# Altium footprint library RES1W.PcbLib: 1 footprints
Each footprint in its own frame and in the unit in brackets; x right, y up, seen from the top. Pads: shape width x height; smd on the part's side, far side on the other; paste and mask are expansions set on the pad; w line width, h text height; cw(c..) or ccw(c..) is an arc to the next point about the centre after c.
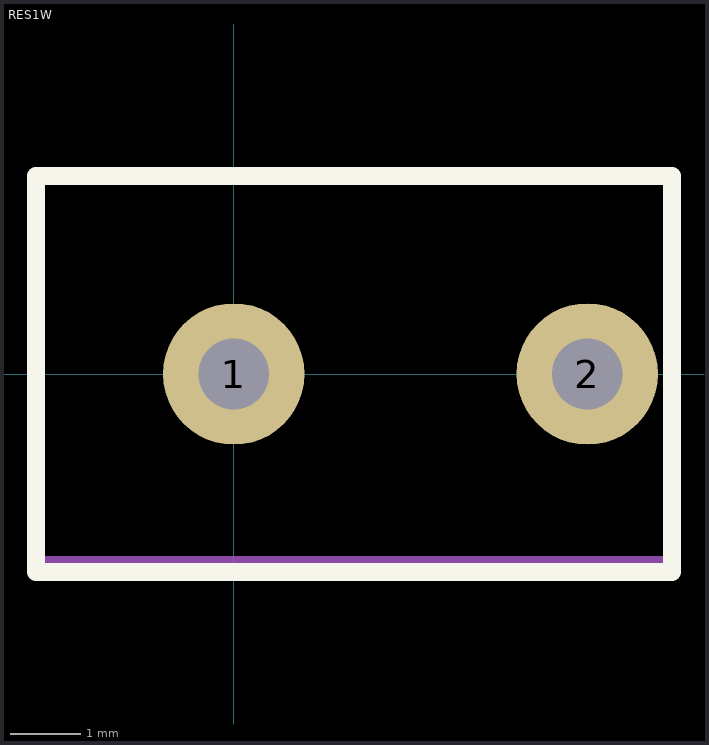
[diagram p0: the footprint, top view; thin cyan lines are the x and y axes]

## RES1W [mm]
pads (2):
  round 2 hole 1: 1(0,0) 2(5,0)
Top Overlay:
  lines w0.254: -2.8,-2.8 6.2,-2.8 6.2,2.8 -2.8,2.8 -2.8,-2.8
Top Assembly:
  lines w0.254: -2.8,-2.7 6.2,-2.7 6.2,2.8 -2.8,2.8 -2.8,-2.7
  text "'.Designator'" at 0,0 h0.7
3D body "CircuitWorks-2W CARBON FILM RESISTOR.STEP": height 20.6, standoff -5, extent -2.6,-2.6 5.4,2.6